# Altium schematic symbol library Driver_FET.SchLib: 216 symbols (part 2 of 3)
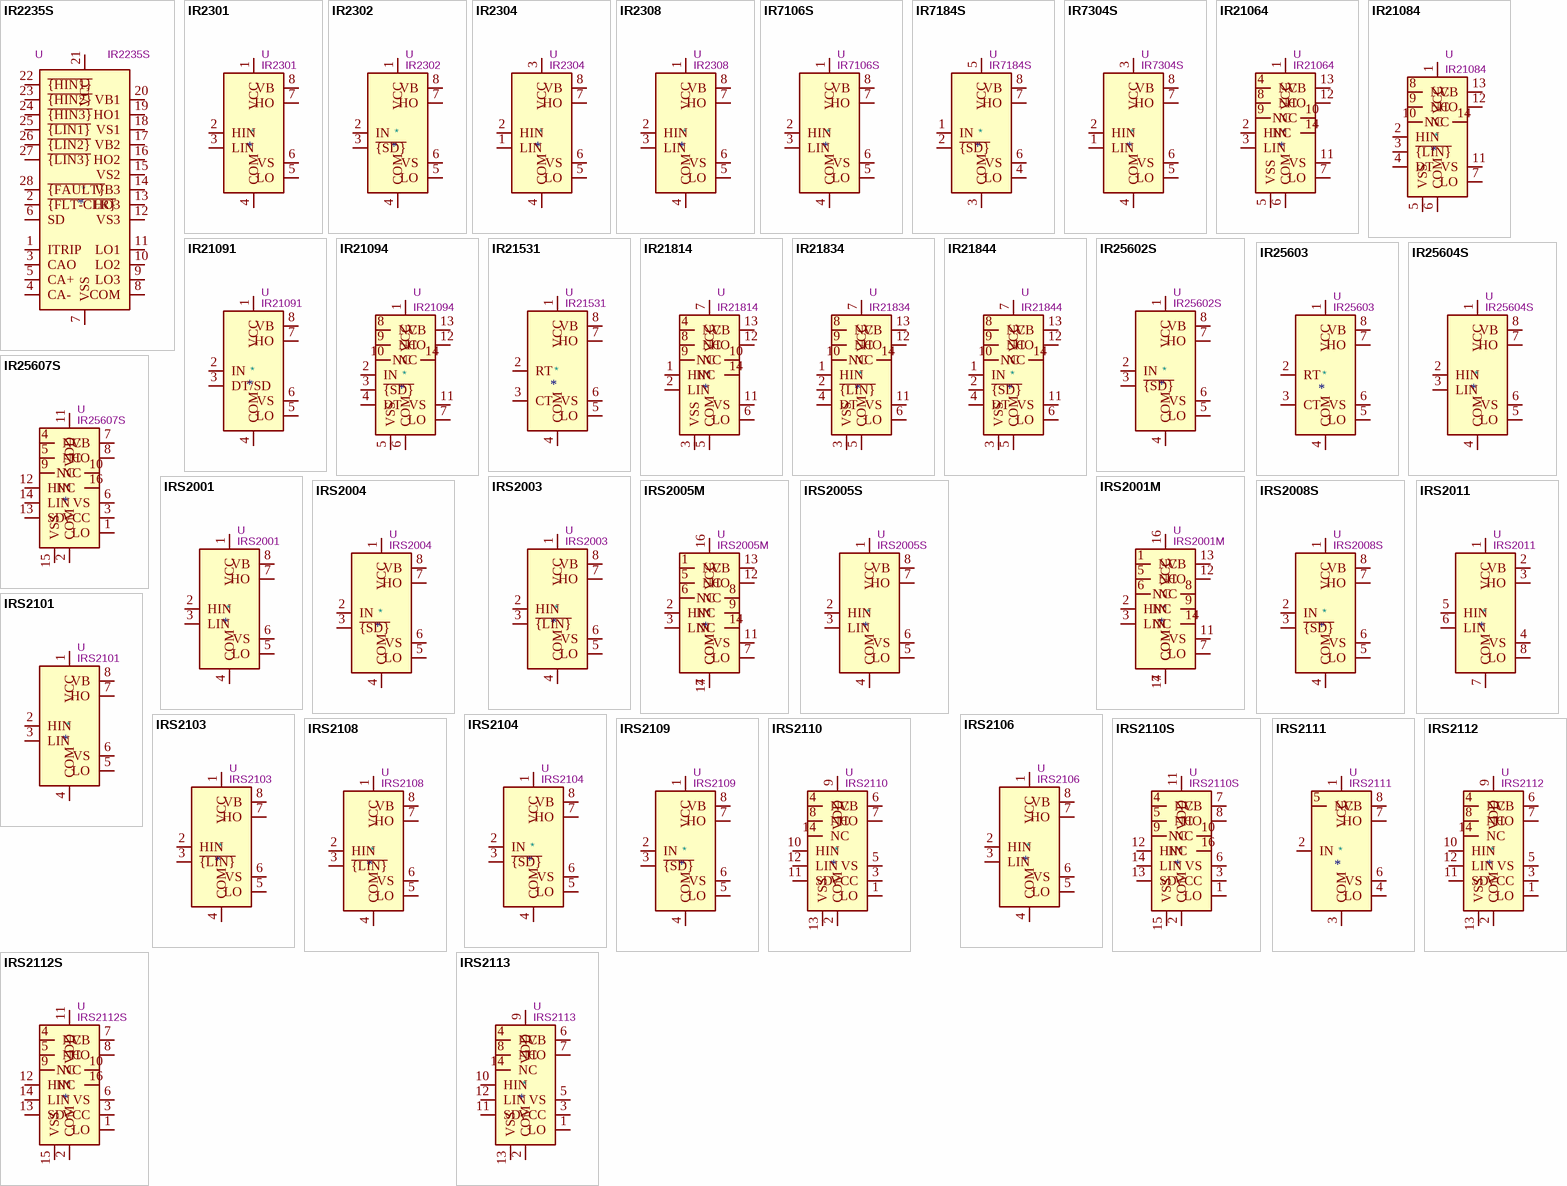
[diagram p6: symbols IR2235S to IRS2113]

## IR25607S
designator *  value IR25607S  Reference: U
High and Low Side Driver, 600V, 2.0/2.0A, SOIC-16W; ki_keywords: Gate Driver; ki_fp_filters: SOIC*7.5x10.3mm*P1.27mm*; Footprint: Package_SO:SOIC-16W_7.5x10.3mm_P1.27mm; Datasheet: https://www.infineon.com/dgdl/ir25607.pdf?fileId=5546d462533600a4015355ca0e7916f5; Description_: High and Low Side Driver, 600V, 2.0/2.0A, SOIC-16W
pins: 1 LO, 2 COM, 3 VCC, 4 NC, 5 NC, 6 VS, 7 VB, 8 HO, 9 NC, 10 NC, 11 VDD, 12 HIN, 13 SD, 14 LIN, 15 VSS, 16 NC

## IRS2001
designator *  value IRS2001  Reference: U
High and Low Side Driver, 200V, 200/420mA, PDIP-8/SOIC-8; ki_keywords: Gate Driver; ki_fp_filters: SOIC*3.9x4.9mm*P1.27mm* DIP*W7.62mm*; Datasheet: https://www.infineon.com/dgdl/irs2001pbf.pdf?fileId=5546d462533600a401535675a760277e; Description_: High and Low Side Driver, 200V, 200/420mA, PDIP-8/SOIC-8
pins: 1 VCC, 2 HIN, 3 LIN, 4 COM, 5 LO, 6 VS, 7 HO, 8 VB

## IRS2001M
designator *  value IRS2001M  Reference: U
High and Low Side Driver, 200V, 290/600mA, MLPQ-14; ki_keywords: Gate Driver; ki_fp_filters: Infineon*MLPQ*EP*4x4mm*P0.5mm*; Footprint: Package_DFN_QFN:Infineon_MLPQ-16-14-1EP_4x4mm_P0.5mm; Datasheet: https://www.infineon.com/dgdl/irs2001mpbf.pdf?fileId=5546d462533600a4015356759e20277c; Description_: High and Low Side Driver, 200V, 290/600mA, MLPQ-14
pins: 1 NC, 2 HIN, 3 LIN, 4 COM, 5 NC, 6 NC, 7 LO, 8 NC, 9 NC, 11 VS, 12 HO, 13 VB, 14 NC, 16 VCC, 17 COM

## IRS2003
designator *  value IRS2003  Reference: U
Half-Bridge Driver, 200V, 290/600mA, PDIP-8/SOIC-8; ki_keywords: Gate Driver; ki_fp_filters: SOIC*3.9x4.9mm*P1.27mm* DIP*W7.62mm*; Datasheet: https://www.infineon.com/dgdl/irs2003pbf.pdf?fileId=5546d462533600a401535675afec2780; Description_: Half-Bridge Driver, 200V, 290/600mA, PDIP-8/SOIC-8
pins: 1 VCC, 2 HIN, 3 ~{{LIN}}, 4 COM, 5 LO, 6 VS, 7 HO, 8 VB

## IRS2004
designator *  value IRS2004  Reference: U
Half-Bridge Driver, 200V, 290/600mA, PDIP-8/SOIC-8; ki_keywords: Gate Driver; ki_fp_filters: SOIC*3.9x4.9mm*P1.27mm* DIP*W7.62mm*; Datasheet: https://www.infineon.com/dgdl/irs2004pbf.pdf?fileId=5546d462533600a401535675b86b2782; Description_: Half-Bridge Driver, 200V, 290/600mA, PDIP-8/SOIC-8
pins: 1 VCC, 2 IN, 3 ~{{SD}}, 4 COM, 5 LO, 6 VS, 7 HO, 8 VB

## IRS2005M
designator *  value IRS2005M  Reference: U
High and Low Side Driver, 200V, 290/600mA, MLPQ-14; ki_keywords: Gate Driver; ki_fp_filters: Infineon*MLPQ*EP*4x4mm*P0.5mm*; Footprint: Package_DFN_QFN:Infineon_MLPQ-16-14-1EP_4x4mm_P0.5mm; Datasheet: https://www.infineon.com/dgdl/Infineon-IRS2005S-DS-v02_00-EN.pdf?fileId=5546d462533600a4015364c4246229e1; Description_: High and Low Side Driver, 200V, 290/600mA, MLPQ-14
pins: 1 NC, 2 HIN, 3 LIN, 4 COM, 5 NC, 6 NC, 7 LO, 8 NC, 9 NC, 11 VS, 12 HO, 13 VB, 14 NC, 16 VCC, 17 COM

## IRS2005S
designator *  value IRS2005S  Reference: U
High and Low Side Driver, 200V, 290/600mA, SOIC-8; ki_keywords: Gate Driver; ki_fp_filters: SOIC*3.9x4.9mm*P1.27mm*; Footprint: Package_SO:SOIC-8_3.9x4.9mm_P1.27mm; Datasheet: https://www.infineon.com/dgdl/Infineon-IRS2005S-DS-v02_00-EN.pdf?fileId=5546d462533600a4015364c4246229e1; Description_: High and Low Side Driver, 200V, 290/600mA, SOIC-8
pins: 1 VCC, 2 HIN, 3 LIN, 4 COM, 5 LO, 6 VS, 7 HO, 8 VB

## IRS2008S
designator *  value IRS2008S  Reference: U
200-V Half-Bridge Driver With Shutdown Input, 200V, 290/600mA, SOIC-8; ki_keywords: Gate Driver; ki_fp_filters: SOIC*3.9x4.9mm*P1.27mm*; Footprint: Package_SO:SOIC-8_3.9x4.9mm_P1.27mm; Datasheet: https://www.infineon.com/dgdl/Infineon-IRS2008S-DS-v01_00-EN.pdf?fileId=5546d46259d9a4bf015a3e76b6361c1a; Description_: 200-V Half-Bridge Driver With Shutdown Input, 200V, 290/600mA, SOIC-8
pins: 1 VCC, 2 IN, 3 ~{{SD}}, 4 COM, 5 LO, 6 VS, 7 HO, 8 VB

## IRS2011
designator *  value IRS2011  Reference: U
High and Low Side Driver, 200V, 1.0/1.0A, PDIP-8/SOIC-8; ki_keywords: Gate Driver; ki_fp_filters: SOIC*3.9x4.9mm*P1.27mm* DIP*W7.62mm*; Datasheet: https://www.infineon.com/dgdl/irs2011pbf.pdf?fileId=5546d462533600a401535675c19f2784; Description_: High and Low Side Driver, 200V, 1.0/1.0A, PDIP-8/SOIC-8
pins: 1 VCC, 2 VB, 3 HO, 4 VS, 5 HIN, 6 LIN, 7 COM, 8 LO

## IRS2101
designator *  value IRS2101  Reference: U
High and Low Side Driver, 600V, 290/600mA, PDIP-8/SOIC-8; ki_keywords: Gate Driver; ki_fp_filters: SOIC*3.9x4.9mm*P1.27mm* DIP*W7.62mm*; Datasheet: https://www.infineon.com/dgdl/ir2101.pdf?fileId=5546d462533600a4015355c7a755166c; Description_: High and Low Side Driver, 600V, 290/600mA, PDIP-8/SOIC-8
pins: 1 VCC, 2 HIN, 3 LIN, 4 COM, 5 LO, 6 VS, 7 HO, 8 VB

## IRS2103
designator *  value IRS2103  Reference: U
Half-Bridge Driver, 600V, 290/600mA, PDIP-8/SOIC-8; ki_keywords: Gate Driver; ki_fp_filters: SOIC*3.9x4.9mm*P1.27mm* DIP*W7.62mm*; Datasheet: https://www.infineon.com/dgdl/irs2103.pdf?fileId=5546d462533600a4015356762b71279f; Description_: Half-Bridge Driver, 600V, 290/600mA, PDIP-8/SOIC-8
pins: 1 VCC, 2 HIN, 3 ~{{LIN}}, 4 COM, 5 LO, 6 VS, 7 HO, 8 VB

## IRS2104
designator *  value IRS2104  Reference: U
Half-Bridge Driver, 600V, 290/600mA, PDIP-8/SOIC-8; ki_keywords: Gate Driver; ki_fp_filters: SOIC*3.9x4.9mm*P1.27mm* DIP*W7.62mm*; Datasheet: https://www.infineon.com/dgdl/irs2104.pdf?fileId=5546d462533600a40153567633f727a1; Description_: Half-Bridge Driver, 600V, 290/600mA, PDIP-8/SOIC-8
pins: 1 VCC, 2 IN, 3 ~{{SD}}, 4 COM, 5 LO, 6 VS, 7 HO, 8 VB

## IRS2106
designator *  value IRS2106  Reference: U
High and Low Side Driver, 600V, 290/600mA, PDIP-8/SOIC-8; ki_keywords: Gate Driver; ki_fp_filters: SOIC*3.9x4.9mm*P1.27mm* DIP*W7.62mm*; Datasheet: https://www.infineon.com/dgdl/irs2106.pdf?fileId=5546d462533600a4015356763aa527a3; Description_: High and Low Side Driver, 600V, 290/600mA, PDIP-8/SOIC-8
pins: 1 VCC, 2 HIN, 3 LIN, 4 COM, 5 LO, 6 VS, 7 HO, 8 VB

## IRS2108
designator *  value IRS2108  Reference: U
Half-Bridge Driver, 600V, 290/600mA, PDIP-8/SOIC-8; ki_keywords: Gate Driver; ki_fp_filters: SOIC*3.9x4.9mm*P1.27mm* DIP*W7.62mm*; Datasheet: https://www.infineon.com/dgdl/irs2108.pdf?fileId=5546d462533600a40153567649d627a8; Description_: Half-Bridge Driver, 600V, 290/600mA, PDIP-8/SOIC-8
pins: 1 VCC, 2 HIN, 3 ~{{LIN}}, 4 COM, 5 LO, 6 VS, 7 HO, 8 VB

## IRS2109
designator *  value IRS2109  Reference: U
Half-Bridge Driver, 600V, 290/600mA, PDIP-8/SOIC-8; ki_keywords: Gate Driver; ki_fp_filters: SOIC*3.9x4.9mm*P1.27mm* DIP*W7.62mm*; Datasheet: https://www.infineon.com/dgdl/irs2109.pdf?fileId=5546d462533600a401535676508f27ab; Description_: Half-Bridge Driver, 600V, 290/600mA, PDIP-8/SOIC-8
pins: 1 VCC, 2 IN, 3 ~{{SD}}, 4 COM, 5 LO, 6 VS, 7 HO, 8 VB

## IRS2110
designator *  value IRS2110  Reference: U
High and Low Side Driver, 500V, 2.0/2.0A, PDIP-14; ki_keywords: Gate Driver; ki_fp_filters: DIP*W7.62mm*; Footprint: Package_DIP:DIP-14_W7.62mm; Datasheet: https://www.infineon.com/dgdl/irs2110.pdf?fileId=5546d462533600a40153567660ff27b0; Description_: High and Low Side Driver, 500V, 2.0/2.0A, PDIP-14
pins: 1 LO, 2 COM, 3 VCC, 4 NC, 5 VS, 6 VB, 7 HO, 8 NC, 9 VDD, 10 HIN, 11 SD, 12 LIN, 13 VSS, 14 NC

## IRS2110S
designator *  value IRS2110S  Reference: U
High and Low Side Driver, 500V, 2.0/2.0A, SOIC-16W; ki_keywords: Gate Driver; ki_fp_filters: SOIC*7.5x10.3mm*P1.27mm*; Footprint: Package_SO:SOIC-16W_7.5x10.3mm_P1.27mm; Datasheet: https://www.infineon.com/dgdl/irs2110.pdf?fileId=5546d462533600a40153567660ff27b0; Description_: High and Low Side Driver, 500V, 2.0/2.0A, SOIC-16W
pins: 1 LO, 2 COM, 3 VCC, 4 NC, 5 NC, 6 VS, 7 VB, 8 HO, 9 NC, 10 NC, 11 VDD, 12 HIN, 13 SD, 14 LIN, 15 VSS, 16 NC

## IRS2111
designator *  value IRS2111  Reference: U
Half-Bridge Driver, 600V, 290/600mA, PDIP-8/SOIC-8; ki_keywords: Gate Driver; ki_fp_filters: SOIC*3.9x4.9mm*P1.27mm* DIP*W7.62mm*; Datasheet: https://www.infineon.com/dgdl/irs2111pbf.pdf?fileId=5546d462533600a401535676679b27b3; Description_: Half-Bridge Driver, 600V, 290/600mA, PDIP-8/SOIC-8
pins: 1 VCC, 2 IN, 3 COM, 4 LO, 5 NC, 6 VS, 7 HO, 8 VB

## IRS2112
designator *  value IRS2112  Reference: U
High and Low Side Driver, 600V, 290/600mA, PDIP-14; ki_keywords: Gate Driver; ki_fp_filters: DIP*W7.62mm*; Footprint: Package_DIP:DIP-14_W7.62mm; Datasheet: https://www.infineon.com/dgdl/irs2112pbf.pdf?fileId=5546d462533600a401535676702827b5; Description_: High and Low Side Driver, 600V, 290/600mA, PDIP-14
pins: 1 LO, 2 COM, 3 VCC, 4 NC, 5 VS, 6 VB, 7 HO, 8 NC, 9 VDD, 10 HIN, 11 SD, 12 LIN, 13 VSS, 14 NC

## IRS2112S
designator *  value IRS2112S  Reference: U
High and Low Side Driver, 500V, 290/600mA, SOIC-16W; ki_keywords: Gate Driver; ki_fp_filters: SOIC*7.5x10.3mm*P1.27mm*; Footprint: Package_SO:SOIC-16W_7.5x10.3mm_P1.27mm; Datasheet: https://www.infineon.com/dgdl/irs2112pbf.pdf?fileId=5546d462533600a401535676702827b5; Description_: High and Low Side Driver, 500V, 290/600mA, SOIC-16W
pins: 1 LO, 2 COM, 3 VCC, 4 NC, 5 NC, 6 VS, 7 VB, 8 HO, 9 NC, 10 NC, 11 VDD, 12 HIN, 13 SD, 14 LIN, 15 VSS, 16 NC

## IRS2113
designator *  value IRS2113  Reference: U
High and Low Side Driver, 600V, 2.0/2.0A, PDIP-14; ki_keywords: Gate Driver; ki_fp_filters: DIP*W7.62mm*; Footprint: Package_DIP:DIP-14_W7.62mm; Datasheet: https://www.infineon.com/dgdl/irs2110.pdf?fileId=5546d462533600a40153567660ff27b0; Description_: High and Low Side Driver, 600V, 2.0/2.0A, PDIP-14
pins: 1 LO, 2 COM, 3 VCC, 4 NC, 5 VS, 6 VB, 7 HO, 8 NC, 9 VDD, 10 HIN, 11 SD, 12 LIN, 13 VSS, 14 NC

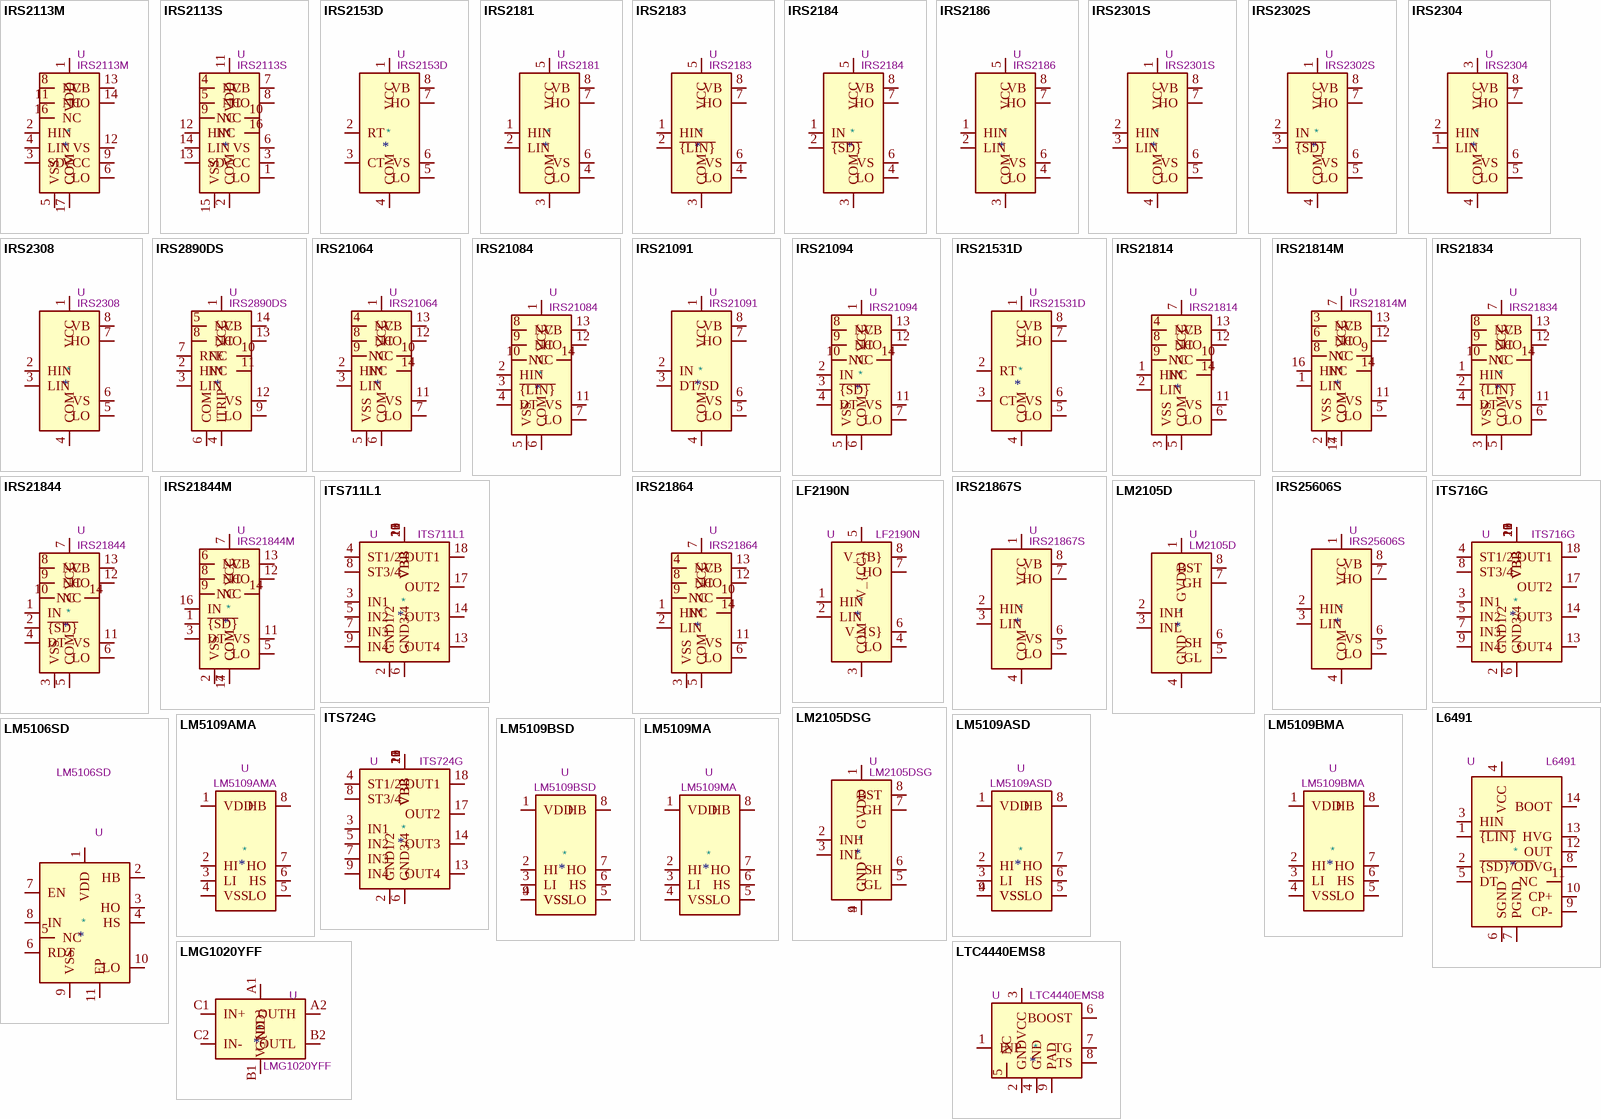
[diagram p3: symbols IRS2113M to LTC4440EMS8]

## IRS2113M
designator *  value IRS2113M  Reference: U
High- and Low-Side Driver, 600V, 2.5/2.5A, MLPQ-14; ki_keywords: Gate Driver; ki_fp_filters: Infineon*MLPQ*EP*4x4mm*P0.5mm*; Footprint: Package_DFN_QFN:Infineon_MLPQ-16-14-1EP_4x4mm_P0.5mm; Datasheet: https://www.infineon.com/dgdl/irs2113mpbf.pdf?fileId=5546d462533600a40153567676a227b7; Description_: High- and Low-Side Driver, 600V, 2.5/2.5A, MLPQ-14
pins: 1 VDD, 2 HIN, 3 SD, 4 LIN, 5 VSS, 6 LO, 7 COM, 8 NC, 9 VCC, 11 NC, 12 VS, 13 VB, 14 HO, 16 NC, 17 COM

## IRS2113S
designator *  value IRS2113S  Reference: U
High and Low Side Driver, 500V, 2.0/2.0A, SOIC-16W; ki_keywords: Gate Driver; ki_fp_filters: SOIC*7.5x10.3mm*P1.27mm*; Footprint: Package_SO:SOIC-16W_7.5x10.3mm_P1.27mm; Datasheet: https://www.infineon.com/dgdl/irs2110.pdf?fileId=5546d462533600a40153567660ff27b0; Description_: High and Low Side Driver, 500V, 2.0/2.0A, SOIC-16W
pins: 1 LO, 2 COM, 3 VCC, 4 NC, 5 NC, 6 VS, 7 VB, 8 HO, 9 NC, 10 NC, 11 VDD, 12 HIN, 13 SD, 14 LIN, 15 VSS, 16 NC

## IRS2153D
designator *  value IRS2153D  Reference: U
Self-Oscillating Half-Bridge Driver IC, 600V, 180/260mA, PDIP-8/SOIC-8; ki_keywords: Oscillating Gate Driver; ki_fp_filters: SOIC*3.9x4.9mm*P1.27mm* DIP*W7.62mm*; Datasheet: https://www.infineon.com/dgdl/irs2153d.pdf?fileId=5546d462533600a401535676951e27c3; Description_: Self-Oscillating Half-Bridge Driver IC, 600V, 180/260mA, PDIP-8/SOIC-8
pins: 1 VCC, 2 RT, 3 CT, 4 COM, 5 LO, 6 VS, 7 HO, 8 VB

## IRS2181
designator *  value IRS2181  Reference: U
High and Low Side Driver, 600V, 1.4/1.8A, PDIP-8/SOIC-8; ki_keywords: Gate Driver; ki_fp_filters: SOIC*3.9x4.9mm*P1.27mm* DIP*W7.62mm*; Datasheet: https://www.infineon.com/dgdl/irs2181.pdf?fileId=5546d462533600a401535676c12b27d3; Description_: High and Low Side Driver, 600V, 1.4/1.8A, PDIP-8/SOIC-8
pins: 1 HIN, 2 LIN, 3 COM, 4 LO, 5 VCC, 6 VS, 7 HO, 8 VB

## IRS2183
designator *  value IRS2183  Reference: U
Half-Bridge Driver, 600V, 1.4/1.8A, PDIP-8/SOIC-8; ki_keywords: Gate Driver; ki_fp_filters: SOIC*3.9x4.9mm*P1.27mm* DIP*W7.62mm*; Datasheet: https://www.infineon.com/dgdl/irs2183.pdf?fileId=5546d462533600a401535676d20c27d8; Description_: Half-Bridge Driver, 600V, 1.4/1.8A, PDIP-8/SOIC-8
pins: 1 HIN, 2 ~{{LIN}}, 3 COM, 4 LO, 5 VCC, 6 VS, 7 HO, 8 VB

## IRS2184
designator *  value IRS2184  Reference: U
Half-Bridge Driver, 600V, 1.4/1.8A, PDIP-8/SOIC-8; ki_keywords: Gate Driver; ki_fp_filters: SOIC*3.9x4.9mm*P1.27mm* DIP*W7.62mm*; Datasheet: https://www.infineon.com/dgdl/irs2184.pdf?fileId=5546d462533600a401535676d8da27db; Description_: Half-Bridge Driver, 600V, 1.4/1.8A, PDIP-8/SOIC-8
pins: 1 IN, 2 ~{{SD}}, 3 COM, 4 LO, 5 VCC, 6 VS, 7 HO, 8 VB

## IRS2186
designator *  value IRS2186  Reference: U
High and Low Side Driver, 600V, 4A, PDIP-8/SOIC-8; ki_keywords: gate driver; ki_fp_filters: SOIC*3.9x4.9mm*P1.27mm* DIP*W7.62mm*; Datasheet: https://www.infineon.com/dgdl/irs2186pbf.pdf?fileId=5546d462533600a40153567716c427ed; Description_: High and Low Side Driver, 600V, 4A, PDIP-8/SOIC-8
pins: 1 HIN, 2 LIN, 3 COM, 4 LO, 5 VCC, 6 VS, 7 HO, 8 VB

## IRS2301S
designator *  value IRS2301S  Reference: U
High and Low Side Driver, 600V, 200/350mA, SOIC-8; ki_keywords: Gate Driver; ki_fp_filters: SOIC*3.9x4.9mm*P1.27mm*; Footprint: Package_SO:SOIC-8_3.9x4.9mm_P1.27mm; Datasheet: https://www.infineon.com/dgdl/irs2301pbf.pdf?fileId=5546d462533600a40153567a7ec527fe; Description_: High and Low Side Driver, 600V, 200/350mA, SOIC-8
pins: 1 VCC, 2 HIN, 3 LIN, 4 COM, 5 LO, 6 VS, 7 HO, 8 VB

## IRS2302S
designator *  value IRS2302S  Reference: U
Half-Bridge Driver, 600V, 200/350mA, SOIC-8; ki_keywords: Gate Driver; ki_fp_filters: SOIC*3.9x4.9mm*P1.27mm*; Footprint: Package_SO:SOIC-8_3.9x4.9mm_P1.27mm; Datasheet: https://www.infineon.com/dgdl/Infineon-IRS2302-DS-v02_01-EN.pdf?fileId=5546d462533600a40153567a87382800; Description_: Half-Bridge Driver, 600V, 200/350mA, SOIC-8
pins: 1 VCC, 2 IN, 3 ~{{SD}}, 4 COM, 5 LO, 6 VS, 7 HO, 8 VB

## IRS2304
designator *  value IRS2304  Reference: U
Half-Bridge Driver, 600V, 290/600mA, PDIP-8/SOIC-8; ki_keywords: Gate Driver; ki_fp_filters: SOIC*3.9x4.9mm*P1.27mm* DIP*W7.62mm*; Datasheet: https://www.infineon.com/dgdl/irs2304spbf.pdf?fileId=5546d462533600a40153567a8fe72802; Description_: Half-Bridge Driver, 600V, 290/600mA, PDIP-8/SOIC-8
pins: 1 LIN, 2 HIN, 3 VCC, 4 COM, 5 LO, 6 VS, 7 HO, 8 VB

## IRS2308
designator *  value IRS2308  Reference: U
Half-Bridge Driver, 600V, 290/600mA, PDIP-8/SOIC-8; ki_keywords: Gate Driver; ki_fp_filters: SOIC*3.9x4.9mm*P1.27mm* DIP*W7.62mm*; Datasheet: https://www.infineon.com/dgdl/irs2308.pdf?fileId=5546d462533600a40153567a98ac2804; Description_: Half-Bridge Driver, 600V, 290/600mA, PDIP-8/SOIC-8
pins: 1 VCC, 2 HIN, 3 LIN, 4 COM, 5 LO, 6 VS, 7 HO, 8 VB

## IRS2890DS
designator *  value IRS2890DS  Reference: U
Half-Bridge Driver with Overcurrent Protection, 600V, 220/480mA, SOIC-14; ki_keywords: Gate Driver; ki_fp_filters: SOIC*3.9x8.7mm*P1.27mm*; Footprint: Package_SO:SOIC-14_3.9x8.7mm_P1.27mm; Datasheet: https://www.infineon.com/dgdl/Infineon-IRS2890DS-DS-v01_00-EN.pdf?fileId=5546d4625a888733015aad6fbc8a4bf4; Description_: Half-Bridge Driver with Overcurrent Protection, 600V, 220/480mA, SOIC-14
pins: 1 VCC, 2 HIN, 3 LIN, 4 ITRIP, 5 NC, 6 COM, 7 RFE, 8 NC, 9 LO, 10 NC, 11 NC, 12 VS, 13 HO, 14 VB

## IRS21064
designator *  value IRS21064  Reference: U
High and Low Side Driver, 600V, 290/600mA, PDIP-14/SOIC-14; ki_keywords: Gate Driver; ki_fp_filters: SOIC*3.9x8.7mm*P1.27mm* DIP*W7.62mm*; Datasheet: https://www.infineon.com/dgdl/irs2106.pdf?fileId=5546d462533600a4015356763aa527a3; Description_: High and Low Side Driver, 600V, 290/600mA, PDIP-14/SOIC-14
pins: 1 VCC, 2 HIN, 3 LIN, 4 NC, 5 VSS, 6 COM, 7 LO, 8 NC, 9 NC, 10 NC, 11 VS, 12 HO, 13 VB, 14 NC

## IRS21084
designator *  value IRS21084  Reference: U
Half-Bridge Driver, 600V, 290/600mA, PDIP-14/SOIC-14; ki_keywords: Gate Driver; ki_fp_filters: SOIC*3.9x8.7mm*P1.27mm* DIP*W7.62mm*; Datasheet: https://www.infineon.com/dgdl/irs2108.pdf?fileId=5546d462533600a40153567649d627a8; Description_: Half-Bridge Driver, 600V, 290/600mA, PDIP-14/SOIC-14
pins: 1 VCC, 2 HIN, 3 ~{{LIN}}, 4 DT, 5 VSS, 6 COM, 7 LO, 8 NC, 9 NC, 10 NC, 11 VS, 12 HO, 13 VB, 14 NC

## IRS21091
designator *  value IRS21091  Reference: U
Half-Bridge Driver, 600V, 290/600mA, PDIP-8/SOIC-8; ki_keywords: Gate Driver; ki_fp_filters: SOIC*3.9x4.9mm*P1.27mm* DIP*W7.62mm*; Datasheet: https://www.infineon.com/dgdl/irs21091.pdf?fileId=5546d462533600a401535676573d27ae; Description_: Half-Bridge Driver, 600V, 290/600mA, PDIP-8/SOIC-8
pins: 1 VCC, 2 IN, 3 DT/SD, 4 COM, 5 LO, 6 VS, 7 HO, 8 VB

## IRS21094
designator *  value IRS21094  Reference: U
Half-Bridge Driver, 600V, 290/600mA, PDIP-8/SOIC-8; ki_keywords: Gate Driver; ki_fp_filters: SOIC*3.9x8.7mm*P1.27mm* DIP*W7.62mm*; Datasheet: https://www.infineon.com/dgdl/irs2109.pdf?fileId=5546d462533600a401535676508f27ab; Description_: Half-Bridge Driver, 600V, 290/600mA, PDIP-8/SOIC-8
pins: 1 VCC, 2 IN, 3 ~{{SD}}, 4 DT, 5 VSS, 6 COM, 7 LO, 8 NC, 9 NC, 10 NC, 11 VS, 12 HO, 13 VB, 14 NC

## IRS21531D
designator *  value IRS21531D  Reference: U
Self-Oscillating Half-Bridge Driver IC, 600V, 180/260mA, PDIP-8/SOIC-8; ki_keywords: Oscillating Gate Driver; ki_fp_filters: SOIC*3.9x4.9mm*P1.27mm* DIP*W7.62mm*; Datasheet: https://www.infineon.com/dgdl/irs2153d.pdf?fileId=5546d462533600a401535676951e27c3; Description_: Self-Oscillating Half-Bridge Driver IC, 600V, 180/260mA, PDIP-8/SOIC-8
pins: 1 VCC, 2 RT, 3 CT, 4 COM, 5 LO, 6 VS, 7 HO, 8 VB

## IRS21814
designator *  value IRS21814  Reference: U
High and Low Side Driver, 600V, 1.4/1.8A, PDIP-14/SOIC-14; ki_keywords: Gate Driver; ki_fp_filters: SOIC*3.9x8.7mm*P1.27mm* DIP*W7.62mm*; Datasheet: https://www.infineon.com/dgdl/irs2181.pdf?fileId=5546d462533600a401535676c12b27d3; Description_: High and Low Side Driver, 600V, 1.4/1.8A, PDIP-14/SOIC-14
pins: 1 HIN, 2 LIN, 3 VSS, 4 NC, 5 COM, 6 LO, 7 VCC, 8 NC, 9 NC, 10 NC, 11 VS, 12 HO, 13 VB, 14 NC

## IRS21814M
designator *  value IRS21814M  Reference: U
High- and Low-Side Driver, 600V, 1.9/2.3A, MLPQ-14; ki_keywords: Gate Driver; ki_fp_filters: Infineon*MLPQ*EP*4x4mm*P0.5mm*; Footprint: Package_DFN_QFN:Infineon_MLPQ-16-14-1EP_4x4mm_P0.5mm; Datasheet: https://www.infineon.com/dgdl/irs21814mpbf.pdf?fileId=5546d462533600a401535676c8a827d6; Description_: High- and Low-Side Driver, 600V, 1.9/2.3A, MLPQ-14
pins: 1 LIN, 2 VSS, 3 NC, 4 COM, 5 LO, 6 NC, 7 VCC, 8 NC, 9 NC, 11 VS, 12 HO, 13 VB, 14 NC, 16 HIN, 17 COM

## IRS21834
designator *  value IRS21834  Reference: U
Half-Bridge Driver, 600V, 1.4/1.8A, PDIP-14/SOIC-14; ki_keywords: Gate Driver; ki_fp_filters: SOIC*3.9x8.7mm*P1.27mm* DIP*W7.62mm*; Datasheet: https://www.infineon.com/dgdl/irs2183.pdf?fileId=5546d462533600a401535676d20c27d8; Description_: Half-Bridge Driver, 600V, 1.4/1.8A, PDIP-14/SOIC-14
pins: 1 HIN, 2 ~{{LIN}}, 3 VSS, 4 DT, 5 COM, 6 LO, 7 VCC, 8 NC, 9 NC, 10 NC, 11 VS, 12 HO, 13 VB, 14 NC

## IRS21844
designator *  value IRS21844  Reference: U
Half-Bridge Driver, 600V, 1.4/1.8A, PDIP-14/SOIC-14; ki_keywords: Gate Driver; ki_fp_filters: SOIC*3.9x8.7mm*P1.27mm* DIP*W7.62mm*; Datasheet: https://www.infineon.com/dgdl/irs2184.pdf?fileId=5546d462533600a401535676d8da27db; Description_: Half-Bridge Driver, 600V, 1.4/1.8A, PDIP-14/SOIC-14
pins: 1 IN, 2 ~{{SD}}, 3 VSS, 4 DT, 5 COM, 6 LO, 7 VCC, 8 NC, 9 NC, 10 NC, 11 VS, 12 HO, 13 VB, 14 NC

## IRS21844M
designator *  value IRS21844M  Reference: U
Half-Bridge Driver, 600V, 1.9/2.3A, MLPQ-14; ki_keywords: Gate Driver; ki_fp_filters: Infineon*MLPQ*EP*4x4mm*P0.5mm*; Footprint: Package_DFN_QFN:Infineon_MLPQ-16-14-1EP_4x4mm_P0.5mm; Datasheet: https://www.infineon.com/dgdl/irs21844mpbf.pdf?fileId=5546d462533600a401535676dfb027de; Description_: Half-Bridge Driver, 600V, 1.9/2.3A, MLPQ-14
pins: 1 ~{{SD}}, 2 VSS, 3 DT, 4 COM, 5 LO, 6 NC, 7 VCC, 8 NC, 9 NC, 11 VS, 12 HO, 13 VB, 14 NC, 16 IN, 17 COM

## IRS21864
designator *  value IRS21864  Reference: U
High and Low Side Driver, 600V, 4A, PDIP-14/SOIC-14; ki_keywords: gate driver; ki_fp_filters: SOIC*3.9x8.7mm*P1.27mm* DIP*W7.62mm*; Datasheet: https://www.infineon.com/dgdl/irs2186pbf.pdf?fileId=5546d462533600a40153567716c427ed; Description_: High and Low Side Driver, 600V, 4A, PDIP-14/SOIC-14
pins: 1 HIN, 2 LIN, 3 VSS, 4 NC, 5 COM, 6 LO, 7 VCC, 8 NC, 9 NC, 10 NC, 11 VS, 12 HO, 13 VB, 14 NC

## IRS21867S
designator *  value IRS21867S  Reference: U
High and Low Side Driver, 600V, 4.0/4.0A, SOIC-8; ki_keywords: Gate Driver; ki_fp_filters: SOIC*3.9x4.9mm*P1.27mm*; Footprint: Package_SO:SOIC-8_3.9x4.9mm_P1.27mm; Datasheet: http://www.infineon.com/dgdl/irs21867spbf.pdf?fileId=5546d462533600a4015356770e8327eb; Description_: High and Low Side Driver, 600V, 4.0/4.0A, SOIC-8
pins: 1 VCC, 2 HIN, 3 LIN, 4 COM, 5 LO, 6 VS, 7 HO, 8 VB

## IRS25606S
designator *  value IRS25606S  Reference: U
Half-Bridge Driver, 600V, 200/350mA, SOIC-8; ki_keywords: Gate Driver; ki_fp_filters: SOIC*3.9x4.9mm*P1.27mm*; Footprint: Package_SO:SOIC-8_3.9x4.9mm_P1.27mm; Datasheet: https://www.infineon.com/dgdl/ir25606.pdf?fileId=5546d462533600a4015355ca002316f3; Description_: Half-Bridge Driver, 600V, 200/350mA, SOIC-8
pins: 1 VCC, 2 HIN, 3 LIN, 4 COM, 5 LO, 6 VS, 7 HO, 8 VB

## ITS711L1
designator *  value ITS711L1  Reference: U
Smart High-Side Power Switch for Industrial Applications, Four Channels, Rds 200mΩ, SOIC-20W; ki_keywords: driver fet quad; ki_fp_filters: SOIC*7.5x12.8mm*P1.27mm*; Footprint: Package_SO:SOIC-20W_7.5x12.8mm_P1.27mm; Datasheet: https://www.infineon.com/dgdl/Infineon-ITS711L1-DS-v01_03-en.pdf?fileId=db3a30432239cccd0122e560bae03c62; Description_: Smart High-Side Power Switch for Industrial Applications, Four Channels, Rds 200mΩ, SOIC-20W
pins: 1 VBB, 2 GND1/2, 3 IN1, 4 ST1/2, 5 IN2, 6 GND3/4, 7 IN3, 8 ST3/4, 9 IN4, 10 VBB, 11 VBB, 12 VBB, 13 OUT4, 14 OUT3, 15 VBB, 16 VBB, 17 OUT2, 18 OUT1, 19 VBB, 20 VBB

## ITS716G
designator *  value ITS716G  Reference: U
Smart High-Side Power Switch for Industrial Applications, Four Channels, Rds 140mΩ, SOIC-20W; ki_keywords: driver fet quad; ki_fp_filters: SOIC*7.5x12.8mm*P1.27mm*; Footprint: Package_SO:SOIC-20W_7.5x12.8mm_P1.27mm; Datasheet: https://www.infineon.com/dgdl/Infineon-ITS716G-DS-v01_01-en.pdf?fileId=db3a304412b407950112b428c2cf3e6d; Description_: Smart High-Side Power Switch for Industrial Applications, Four Channels, Rds 140mΩ, SOIC-20W
pins: 1 VBB, 2 GND1/2, 3 IN1, 4 ST1/2, 5 IN2, 6 GND3/4, 7 IN3, 8 ST3/4, 9 IN4, 10 VBB, 11 VBB, 12 VBB, 13 OUT4, 14 OUT3, 15 VBB, 16 VBB, 17 OUT2, 18 OUT1, 19 VBB, 20 VBB

## ITS724G
designator *  value ITS724G  Reference: U
Smart High-Side Power Switch for Industrial Applications, Four Channels, Rds 90mΩ, SOIC-20W; ki_keywords: driver fet quad; ki_fp_filters: SOIC*7.5x12.8mm*P1.27mm*; Footprint: Package_SO:SOIC-20W_7.5x12.8mm_P1.27mm; Datasheet: https://www.infineon.com/dgdl/Infineon-ITS724G-DS-v01_01-en.pdf?fileId=db3a304412b407950112b428d6083e90; Description_: Smart High-Side Power Switch for Industrial Applications, Four Channels, Rds 90mΩ, SOIC-20W
pins: 1 VBB, 2 GND1/2, 3 IN1, 4 ST1/2, 5 IN2, 6 GND3/4, 7 IN3, 8 ST3/4, 9 IN4, 10 VBB, 11 VBB, 12 VBB, 13 OUT4, 14 OUT3, 15 VBB, 16 VBB, 17 OUT2, 18 OUT1, 19 VBB, 20 VBB

## L6491
designator *  value L6491  Reference: U
High voltage high and low-side 4 A gate driver, SO-14; ki_keywords: fet driver; ki_fp_filters: SO*3.9x8.65mm*P1.27mm*; Footprint: Package_SO:SO-14_3.9x8.65mm_P1.27mm; Datasheet: https://www.st.com/resource/en/datasheet/l6491.pdf; Description_: High voltage high and low-side 4 A gate driver, SO-14
pins: 1 ~{{LIN}}, 2 ~{{SD}/OD}, 3 HIN, 4 VCC, 5 DT, 6 SGND, 7 PGND, 8 LVG, 9 CP-, 10 CP+, 11 NC, 12 OUT, 13 HVG, 14 BOOT

## LF2190N
designator *  value LF2190N  Reference: U
High and Low Side Driver, 600V, 4.5/4.5A, SO-8; ki_keywords: ixys littelfuse boosted bootstrapped dual; ki_fp_filters: SOIC*3.9x4.9mm*P1.27mm*; Footprint: Package_SO:SOIC-8_3.9x4.9mm_P1.27mm; Datasheet: https://www.littelfuse.com/media?resourcetype=datasheets&itemid=4c945cfe-ef54-4349-b2fb-9c1330d8240c&filename=littelfuse-gate-drivers-lf2190ntr-datasheet; Description_: High and Low Side Driver, 600V, 4.5/4.5A, SO-8
pins: 1 HIN, 2 LIN, 3 COM, 4 LO, 5 V_{CC}, 6 V_{S}, 7 HO, 8 V_{B}

## LM2105D
designator *  value LM2105D  Reference: U
107-V, 0.5-A, 0.8-A Half-Bridge Driver with 5-V UVLO and Integrated Bootstrap Diode, SOIC-8; ki_keywords: gate driver bootstrap half bridge; ki_fp_filters: SOIC*3.9x4.9mm*P1.27*; Footprint: Package_SO:SOIC-8_3.9x4.9mm_P1.27mm; Datasheet: https://www.ti.com/lit/ds/symlink/lm2105.pdf; Description_: 107-V, 0.5-A, 0.8-A Half-Bridge Driver with 5-V UVLO and Integrated Bootstrap Diode, SOIC-8
pins: 1 GVDD, 2 INH, 3 INL, 4 GND, 5 GL, 6 SH, 7 GH, 8 BST

## LM2105DSG
designator *  value LM2105DSG  Reference: U
107-V, 0.5-A, 0.8-A Half-Bridge Driver with 5-V UVLO and Integrated Bootstrap Diode, WSON-8-1EP; ki_keywords: gate driver bootstrap half bridge; ki_fp_filters: WSON*1EP*2x2mm*P0.5mm*EP0.9x1.6*; Footprint: Package_SON:WSON-8-1EP_2x2mm_P0.5mm_EP0.9x1.6mm; Datasheet: https://www.ti.com/lit/ds/symlink/lm2105.pdf; Description_: 107-V, 0.5-A, 0.8-A Half-Bridge Driver with 5-V UVLO and Integrated Bootstrap Diode, WSON-8-1EP
pins: 1 GVDD, 2 INH, 3 INL, 4 GND, 5 GL, 6 SH, 7 GH, 8 BST, 9 GND

## LM5106SD
designator *  value LM5106SD  Reference: U
Half-Bridge Gate Driver, Output Current 1.8A, 100V, WSON-10; ki_keywords: High-Voltage Texas; ki_fp_filters: WSON*1EP*4x4mm*P0.8mm*; Footprint: Package_SON:WSON-10-1EP_4x4mm_P0.8mm_EP2.6x3mm_ThermalVias; Datasheet: https://www.ti.com/lit/ds/symlink/lm5106.pdf; Description_: Half-Bridge Gate Driver, Output Current 1.8A, 100V, WSON-10
pins: 1 VDD, 2 HB, 3 HO, 4 HS, 5 NC, 6 RDT, 7 EN, 8 IN, 9 VSS, 10 LO, 11 EP

## LM5109AMA
designator *  value LM5109AMA  Reference: U
Half-Bridge Gate Driver, Output Current 1.0A, 100V, SOIC-8; ki_fp_filters: SOIC*3.9x4.9mm*P1.27mm*; Footprint: Package_SO:SOIC-8_3.9x4.9mm_P1.27mm; Datasheet: http://www.ti.com/lit/ds/symlink/lm5109a.pdf; Description_: Half-Bridge Gate Driver, Output Current 1.0A, 100V, SOIC-8; ki_keywords: Half-Bridge Gate Driver
pins: 1 VDD, 2 HI, 3 LI, 4 VSS, 5 LO, 6 HS, 7 HO, 8 HB

## LM5109ASD
designator *  value LM5109ASD  Reference: U
Half-Bridge Gate Driver, Output Current 1.0A, 100V, WSON-8; ki_fp_filters: WSON*1EP*4x4mm*P0.8mm*; Footprint: Package_SON:WSON-8-1EP_4x4mm_P0.8mm_EP2.6x3mm; Datasheet: http://www.ti.com/lit/ds/symlink/lm5109a.pdf; Description_: Half-Bridge Gate Driver, Output Current 1.0A, 100V, WSON-8; ki_keywords: Half-Bridge Gate Driver
pins: 1 VDD, 2 HI, 3 LI, 4 VSS, 5 LO, 6 HS, 7 HO, 8 HB, 9 VSS

## LM5109BMA
designator *  value LM5109BMA  Reference: U
Half-Bridge Gate Driver, Output Current 1.0A, 100V, SOIC-8; ki_fp_filters: SOIC*3.9x4.9mm*P1.27mm*; Footprint: Package_SO:SOIC-8_3.9x4.9mm_P1.27mm; Datasheet: http://www.ti.com/lit/ds/symlink/lm5109b.pdf; Description_: Half-Bridge Gate Driver, Output Current 1.0A, 100V, SOIC-8; ki_keywords: Half-Bridge Gate Driver
pins: 1 VDD, 2 HI, 3 LI, 4 VSS, 5 LO, 6 HS, 7 HO, 8 HB

## LM5109BSD
designator *  value LM5109BSD  Reference: U
Half-Bridge Gate Driver, Output Current 1.0A, 100V, WSON-8; ki_fp_filters: WSON*1EP*4x4mm*P0.8mm*; Footprint: Package_SON:WSON-8-1EP_4x4mm_P0.8mm_EP2.6x3mm; Datasheet: http://www.ti.com/lit/ds/symlink/lm5109b.pdf; Description_: Half-Bridge Gate Driver, Output Current 1.0A, 100V, WSON-8; ki_keywords: Half-Bridge Gate Driver
pins: 1 VDD, 2 HI, 3 LI, 4 VSS, 5 LO, 6 HS, 7 HO, 8 HB, 9 VSS

## LM5109MA
designator *  value LM5109MA  Reference: U
Half-Bridge Gate Driver, Output Current 1.0A, 100V, SOIC-8; ki_fp_filters: SOIC*3.9x4.9mm*P1.27mm*; Footprint: Package_SO:SOIC-8_3.9x4.9mm_P1.27mm; Datasheet: http://www.ti.com/lit/ds/symlink/lm5109.pdf; Description_: Half-Bridge Gate Driver, Output Current 1.0A, 100V, SOIC-8; ki_keywords: Half-Bridge Gate Driver
pins: 1 VDD, 2 HI, 3 LI, 4 VSS, 5 LO, 6 HS, 7 HO, 8 HB

## LMG1020YFF
designator *  value LMG1020YFF  Reference: U
5-V, 7-A, 5-A Low-Side GaN and MOSFET Driver For 1-ns Pulse Width, DSBGA-6; ki_keywords: gan hemt gate driver low side fast rise time; ki_fp_filters: Texas?DSBGA?6?0.855x1.255mm?Layout2x3?P0.4mm*; Footprint: Package_BGA:Texas_DSBGA-6_0.855x1.255mm_Layout2x3_P0.4mm_LevelB; Datasheet: https://www.ti.com/lit/ds/symlink/lmg1020.pdf; Description_: 5-V, 7-A, 5-A Low-Side GaN and MOSFET Driver For 1-ns Pulse Width, DSBGA-6
pins: A1 V_{DD}, A2 OUTH, B1 GND, B2 OUTL, C1 IN+, C2 IN-

## LTC4440EMS8
designator *  value LTC4440EMS8  Reference: U
High-side, N-Channel, Mosfet driver, 80V input, -40°C to +85°C, MSOP-8; ki_keywords: high-side mosfet-driver; ki_fp_filters: MSOP*1EP*3x3mm*P0.65mm*; Footprint: Package_SO:MSOP-8-1EP_3x3mm_P0.65mm_EP1.68x1.88mm; Datasheet: https://www.analog.com/media/en/technical-documentation/data-sheets/4440fb.pdf; Description_: High-side, N-Channel, Mosfet driver, 80V input, -40°C to +85°C, MSOP-8
pins: 1 INP, 2 GND, 3 VCC, 4 GND, 5 NC, 6 BOOST, 7 TG, 8 TS, 9 PAD

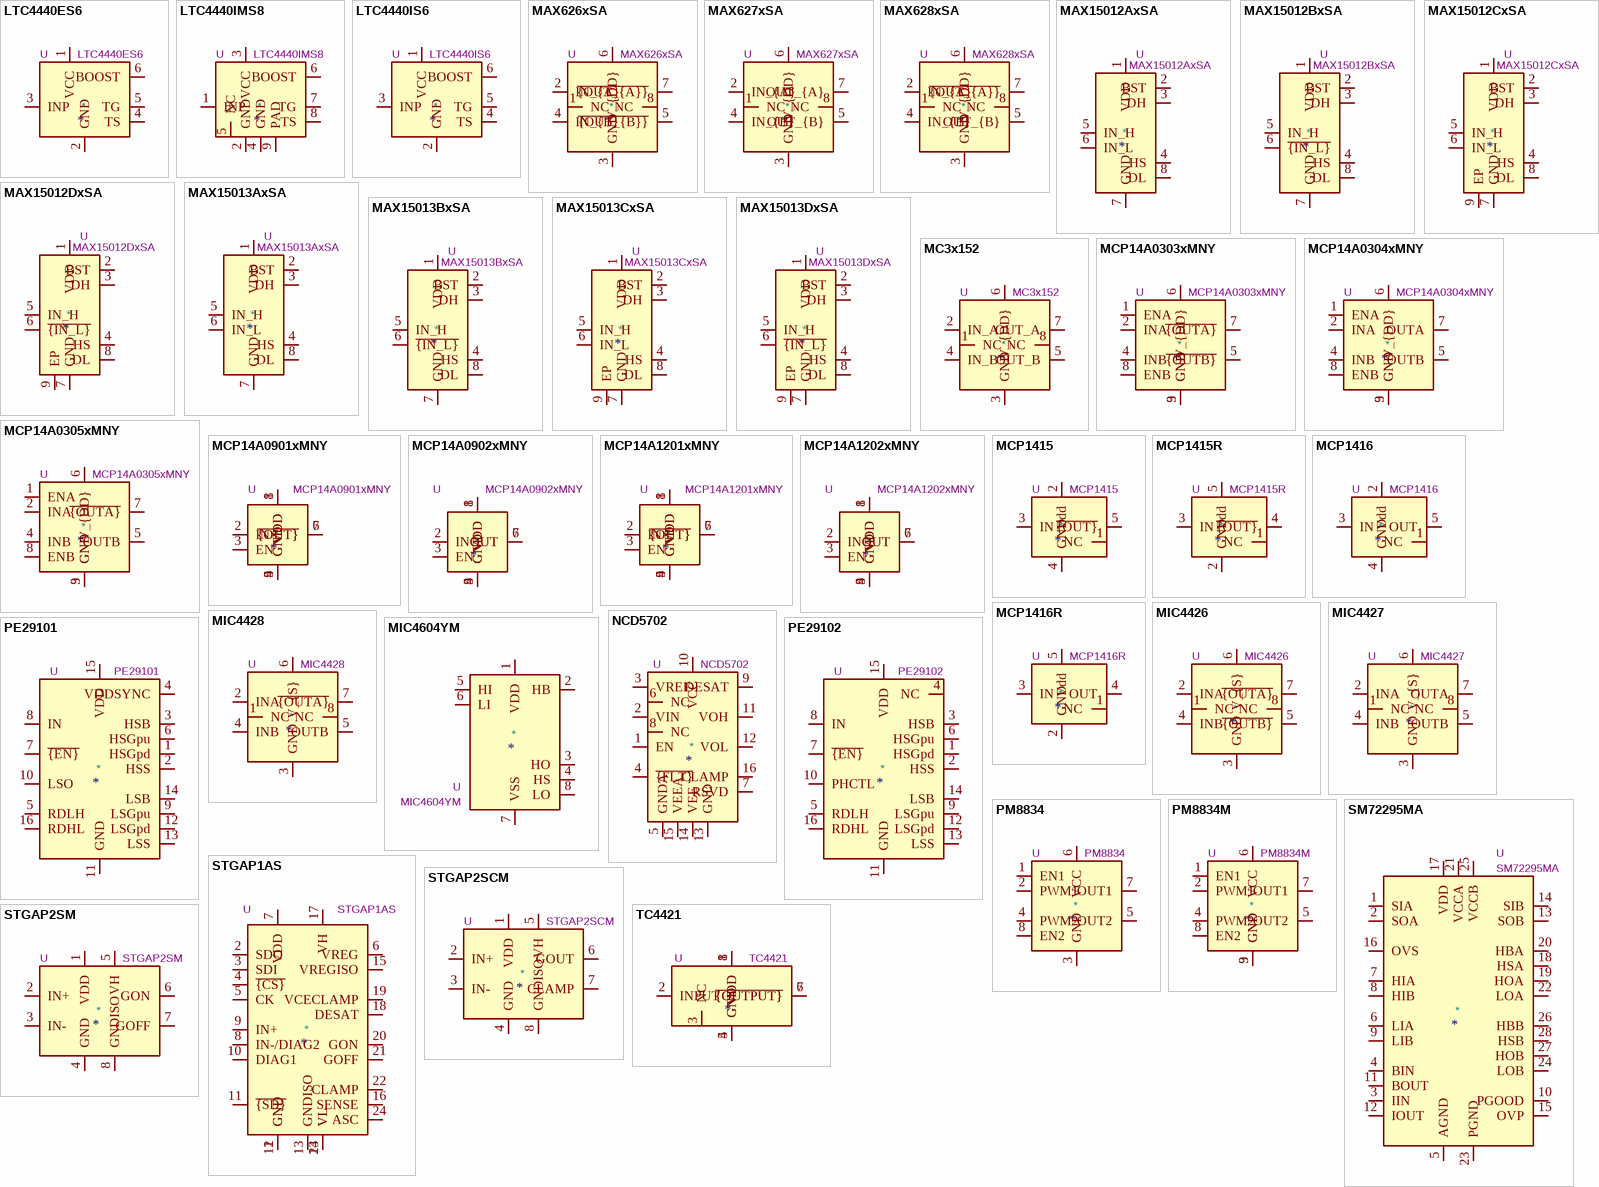
[diagram p4: symbols LTC4440ES6 to TC4421]

## LTC4440ES6
designator *  value LTC4440ES6  Reference: U
High-side, N-Channel, Mosfet driver, 80V input, -40°C to +85°C, SOT23-6; ki_keywords: high-side mosfet-driver; ki_fp_filters: SOT?23*; Footprint: Package_TO_SOT_SMD:SOT-23-6; Datasheet: https://www.analog.com/media/en/technical-documentation/data-sheets/4440fb.pdf; Description_: High-side, N-Channel, Mosfet driver, 80V input, -40°C to +85°C, SOT23-6
pins: 1 VCC, 2 GND, 3 INP, 4 TS, 5 TG, 6 BOOST

## LTC4440IMS8
designator *  value LTC4440IMS8  Reference: U
High-side, N-Channel, Mosfet driver, 80V input, -40°C to +125°C, MSOP-8; ki_keywords: high-side mosfet-driver; ki_fp_filters: MSOP*1EP*3x3mm*P0.65mm*; Footprint: Package_SO:MSOP-8-1EP_3x3mm_P0.65mm_EP1.68x1.88mm; Datasheet: https://www.analog.com/media/en/technical-documentation/data-sheets/4440fb.pdf; Description_: High-side, N-Channel, Mosfet driver, 80V input, -40°C to +125°C, MSOP-8
pins: 1 INP, 2 GND, 3 VCC, 4 GND, 5 NC, 6 BOOST, 7 TG, 8 TS, 9 PAD

## LTC4440IS6
designator *  value LTC4440IS6  Reference: U
High-side, N-Channel, Mosfet driver, 80V input, -40°C to +85°C, SOT23-6; ki_keywords: high-side mosfet-driver; ki_fp_filters: SOT?23*; Footprint: Package_TO_SOT_SMD:SOT-23-6; Datasheet: https://www.analog.com/media/en/technical-documentation/data-sheets/4440fb.pdf; Description_: High-side, N-Channel, Mosfet driver, 80V input, -40°C to +85°C, SOT23-6
pins: 1 VCC, 2 GND, 3 INP, 4 TS, 5 TG, 6 BOOST

## MAX626xSA
designator *  value MAX626xSA  Reference: U
Dual Power MOSFET Driver, 4.5..18V supply, IPK = 2A, 20ns rise / fall times (1 nF load), TTL/CMOS compatible inputs, inverting drivers, SOIC-8; ki_keywords: Maxim-Integrated Analog-Devices TSC426 DS0026 MAX626CSA MAX626ESA; ki_fp_filters: *SOIC*3.9x4.9mm*P1.27mm*; Footprint: Package_SO:SOIC-8_3.9x4.9mm_P1.27mm; Datasheet: https://www.analog.com/media/en/technical-documentation/data-sheets/MAX626-TSC428.pdf; Description_: Dual Power MOSFET Driver, 4.5..18V supply, IPK = 2A, 20ns rise / fall times (1 nF load), TTL/CMOS compatible inputs, inverting drivers, SOIC-8
pins: 1 NC, 2 IN_{A}, 3 GND, 4 IN_{B}, 5 ~{{OUT_{B}}}, 6 V_{DD}, 7 ~{{OUT_{A}}}, 8 NC

## MAX627xSA
designator *  value MAX627xSA  Reference: U
Dual Power MOSFET Driver, 4.5..18V supply, IPK = 2A, 20ns rise / fall times (1 nF load), TTL/CMOS compatible inputs, non-inverting drivers, SOIC-8; ki_keywords: Maxim-Integrated Analog-Devices TSC427 MAX627CSA MAX627ESA; ki_fp_filters: *SOIC*3.9x4.9mm*P1.27mm*; Footprint: Package_SO:SOIC-8_3.9x4.9mm_P1.27mm; Datasheet: https://www.analog.com/media/en/technical-documentation/data-sheets/MAX626-TSC428.pdf; Description_: Dual Power MOSFET Driver, 4.5..18V supply, IPK = 2A, 20ns rise / fall times (1 nF load), TTL/CMOS compatible inputs, non-inverting drivers, SOIC-8
pins: 1 NC, 2 IN_{A}, 3 GND, 4 IN_{B}, 5 OUT_{B}, 6 V_{DD}, 7 OUT_{A}, 8 NC

## MAX628xSA
designator *  value MAX628xSA  Reference: U
Dual Power MOSFET Driver, 4.5..18V supply, IPK = 2A, 20ns rise / fall times (1 nF load), TTL/CMOS compatible inputs, complementary drivers, SOIC-8; ki_keywords: Maxim-Integrated Analog-Devices TSC428 MAX628CSA MAX628ESA; ki_fp_filters: *SOIC*3.9x4.9mm*P1.27mm*; Footprint: Package_SO:SOIC-8_3.9x4.9mm_P1.27mm; Datasheet: https://www.analog.com/media/en/technical-documentation/data-sheets/MAX626-TSC428.pdf; Description_: Dual Power MOSFET Driver, 4.5..18V supply, IPK = 2A, 20ns rise / fall times (1 nF load), TTL/CMOS compatible inputs, complementary drivers, SOIC-8
pins: 1 NC, 2 IN_{A}, 3 GND, 4 IN_{B}, 5 OUT_{B}, 6 V_{DD}, 7 ~{{OUT_{A}}}, 8 NC

## MAX15012AxSA
designator *  value MAX15012AxSA  Reference: U
High Frequency Half Bridge Driver, Output Current 2.0A, 175V, CMOS Input, SOIC-8; ki_keywords: Half Bridge Gate Driver; ki_fp_filters: SOIC*3.9x4.9mm*P1.27mm*; Footprint: Package_SO:SOIC-8_3.9x4.9mm_P1.27mm; Datasheet: https://datasheets.maximintegrated.com/en/ds/MAX15012-MAX15013B.pdf; Description_: High Frequency Half Bridge Driver, Output Current 2.0A, 175V, CMOS Input, SOIC-8
pins: 1 VDD, 2 BST, 3 DH, 4 HS, 5 IN_H, 6 IN_L, 7 GND, 8 DL

## MAX15012BxSA
designator *  value MAX15012BxSA  Reference: U
High Frequency Half Bridge Driver, Output Current 2.0A, 175V, CMOS Input, SOIC-8; ki_keywords: Half Bridge Gate Driver; ki_fp_filters: SOIC*3.9x4.9mm*P1.27mm*; Footprint: Package_SO:SOIC-8_3.9x4.9mm_P1.27mm; Datasheet: https://datasheets.maximintegrated.com/en/ds/MAX15012-MAX15013B.pdf; Description_: High Frequency Half Bridge Driver, Output Current 2.0A, 175V, CMOS Input, SOIC-8
pins: 1 VDD, 2 BST, 3 DH, 4 HS, 5 IN_H, 6 ~{{IN_L}}, 7 GND, 8 DL

## MAX15012CxSA
designator *  value MAX15012CxSA  Reference: U
High Frequency Half Bridge Driver, Output Current 2.0A, 175V, CMOS Input, SOIC-8; ki_keywords: Half Bridge Gate Driver; ki_fp_filters: SOIC*1EP*3.9x4.9mm*P1.27mm*; Footprint: Package_SO:SOIC-8-1EP_3.9x4.9mm_P1.27mm_EP2.514x3.2mm; Datasheet: https://datasheets.maximintegrated.com/en/ds/MAX15012-MAX15013B.pdf; Description_: High Frequency Half Bridge Driver, Output Current 2.0A, 175V, CMOS Input, SOIC-8
pins: 1 VDD, 2 BST, 3 DH, 4 HS, 5 IN_H, 6 IN_L, 7 GND, 8 DL, 9 EP

## MAX15012DxSA
designator *  value MAX15012DxSA  Reference: U
High Frequency Half Bridge Driver, Output Current 2.0A, 175V, CMOS Input, SOIC-8; ki_keywords: Half Bridge Gate Driver; ki_fp_filters: SOIC*1EP*3.9x4.9mm*P1.27mm*; Footprint: Package_SO:SOIC-8-1EP_3.9x4.9mm_P1.27mm_EP2.514x3.2mm; Datasheet: https://datasheets.maximintegrated.com/en/ds/MAX15012-MAX15013B.pdf; Description_: High Frequency Half Bridge Driver, Output Current 2.0A, 175V, CMOS Input, SOIC-8
pins: 1 VDD, 2 BST, 3 DH, 4 HS, 5 IN_H, 6 ~{{IN_L}}, 7 GND, 8 DL, 9 EP

## MAX15013AxSA
designator *  value MAX15013AxSA  Reference: U
High Frequency Half Bridge Driver, Output Current 2.0A, 175V, TTL Input, SOIC-8; ki_keywords: Half Bridge Gate Driver; ki_fp_filters: SOIC*3.9x4.9mm*P1.27mm*; Footprint: Package_SO:SOIC-8_3.9x4.9mm_P1.27mm; Datasheet: https://datasheets.maximintegrated.com/en/ds/MAX15012-MAX15013B.pdf; Description_: High Frequency Half Bridge Driver, Output Current 2.0A, 175V, TTL Input, SOIC-8
pins: 1 VDD, 2 BST, 3 DH, 4 HS, 5 IN_H, 6 IN_L, 7 GND, 8 DL

## MAX15013BxSA
designator *  value MAX15013BxSA  Reference: U
High Frequency Half Bridge Driver, Output Current 2.0A, 175V, TTL Input, SOIC-8; ki_keywords: Half Bridge Gate Driver; ki_fp_filters: SOIC*3.9x4.9mm*P1.27mm*; Footprint: Package_SO:SOIC-8_3.9x4.9mm_P1.27mm; Datasheet: https://datasheets.maximintegrated.com/en/ds/MAX15012-MAX15013B.pdf; Description_: High Frequency Half Bridge Driver, Output Current 2.0A, 175V, TTL Input, SOIC-8
pins: 1 VDD, 2 BST, 3 DH, 4 HS, 5 IN_H, 6 ~{{IN_L}}, 7 GND, 8 DL

## MAX15013CxSA
designator *  value MAX15013CxSA  Reference: U
High Frequency Half Bridge Driver, Output Current 2.0A, 175V, TTL Input, SOIC-8; ki_keywords: Half Bridge Gate Driver; ki_fp_filters: SOIC*1EP*3.9x4.9mm*P1.27mm*; Footprint: Package_SO:SOIC-8-1EP_3.9x4.9mm_P1.27mm_EP2.514x3.2mm; Datasheet: https://datasheets.maximintegrated.com/en/ds/MAX15012-MAX15013B.pdf; Description_: High Frequency Half Bridge Driver, Output Current 2.0A, 175V, TTL Input, SOIC-8
pins: 1 VDD, 2 BST, 3 DH, 4 HS, 5 IN_H, 6 IN_L, 7 GND, 8 DL, 9 EP

## MAX15013DxSA
designator *  value MAX15013DxSA  Reference: U
High Frequency Half Bridge Driver, Output Current 2.0A, 175V, TTL Input, SOIC-8; ki_keywords: Half Bridge Gate Driver; ki_fp_filters: SOIC*1EP*3.9x4.9mm*P1.27mm*; Footprint: Package_SO:SOIC-8-1EP_3.9x4.9mm_P1.27mm_EP2.514x3.2mm; Datasheet: https://datasheets.maximintegrated.com/en/ds/MAX15012-MAX15013B.pdf; Description_: High Frequency Half Bridge Driver, Output Current 2.0A, 175V, TTL Input, SOIC-8
pins: 1 VDD, 2 BST, 3 DH, 4 HS, 5 IN_H, 6 ~{{IN_L}}, 7 GND, 8 DL, 9 EP

## MC3x152
designator *  value MC3x152  Reference: U
Dual High Speed MOSFET Driver, 6.1..18V supply voltage, 1.5A peak output current, 15ns rise / fall times (1 nF load), DIP-8 / SOIC-8; ki_keywords: MC33152 MC34152; ki_fp_filters: DIP*W7.62mm* *SOIC*3.9x4.9mm*P1.27mm*; Datasheet: https://www.onsemi.com/pub/Collateral/MC34152-D.PDF; Description_: Dual High Speed MOSFET Driver, 6.1..18V supply voltage, 1.5A peak output current, 15ns rise / fall times (1 nF load), DIP-8 / SOIC-8
pins: 1 NC, 2 IN_A, 3 GND, 4 IN_B, 5 OUT_B, 6 V_{DD}, 7 OUT_A, 8 NC

## MCP14A0303xMNY
designator *  value MCP14A0303xMNY  Reference: U
Dual 3A-Peak MOSFET Driver, inverting outputs, DFN-8; ki_keywords: high-speed; ki_fp_filters: WDFN*1EP*3x2mm*P0.5mm*EP1.3x1.4mm*; Footprint: Package_DFN_QFN:WDFN-8-1EP_3x2mm_P0.5mm_EP1.3x1.4mm; Datasheet: http://ww1.microchip.com/downloads/en/DeviceDoc/MCP14A0303_4_5-Data-Sheet-20006046A.pdf; Description_: Dual 3A-Peak MOSFET Driver, inverting outputs, DFN-8
pins: 1 ENA, 2 INA, 3 GND, 4 INB, 5 ~{{OUTB}}, 6 V_{DD}, 7 ~{{OUTA}}, 8 ENB, 9 GND

## MCP14A0304xMNY
designator *  value MCP14A0304xMNY  Reference: U
Dual 3A-Peak MOSFET Driver, non-inverting outputs, DFN-8; ki_keywords: high-speed; ki_fp_filters: WDFN*1EP*3x2mm*P0.5mm*EP1.3x1.4mm*; Footprint: Package_DFN_QFN:WDFN-8-1EP_3x2mm_P0.5mm_EP1.3x1.4mm; Datasheet: http://ww1.microchip.com/downloads/en/DeviceDoc/MCP14A0303_4_5-Data-Sheet-20006046A.pdf; Description_: Dual 3A-Peak MOSFET Driver, non-inverting outputs, DFN-8
pins: 1 ENA, 2 INA, 3 GND, 4 INB, 5 OUTB, 6 V_{DD}, 7 OUTA, 8 ENB, 9 GND

## MCP14A0305xMNY
designator *  value MCP14A0305xMNY  Reference: U
Dual 3A-Peak MOSFET Driver, inverting/non-inverting outputs, DFN-8; ki_keywords: high-speed; ki_fp_filters: WDFN*1EP*3x2mm*P0.5mm*EP1.3x1.4mm*; Footprint: Package_DFN_QFN:WDFN-8-1EP_3x2mm_P0.5mm_EP1.3x1.4mm; Datasheet: http://ww1.microchip.com/downloads/en/DeviceDoc/MCP14A0303_4_5-Data-Sheet-20006046A.pdf; Description_: Dual 3A-Peak MOSFET Driver, inverting/non-inverting outputs, DFN-8
pins: 1 ENA, 2 INA, 3 GND, 4 INB, 5 OUTB, 6 V_{DD}, 7 ~{{OUTA}}, 8 ENB, 9 GND

## MCP14A0901xMNY
designator *  value MCP14A0901xMNY  Reference: U
Dual 9A-Peak MOSFET Driver, inverting outputs, DFN-8; ki_keywords: Driver, Dual MOSFET; ki_fp_filters: TDFN*1EP*3x2mm*P0.5mm*; Footprint: Package_DFN_QFN:TDFN-8-1EP_3x2mm_P0.5mm_EP1.3x1.4mm; Datasheet: http://ww1.microchip.com/downloads/en/DeviceDoc/MCP14A0901_2-Data-Sheet-20006183A.pdf; Description_: Dual 9A-Peak MOSFET Driver, inverting outputs, DFN-8
pins: 1 VDD, 2 IN, 3 EN, 4 GND, 5 GND, 6 ~{{OUT}}, 7 ~{{OUT}}, 8 VDD, 9 GND

## MCP14A0902xMNY
designator *  value MCP14A0902xMNY  Reference: U
Dual 9A-Peak MOSFET Driver, non-inverting outputs, DFN-8; ki_keywords: Driver, Dual MOSFET; ki_fp_filters: TDFN*1EP*3x2mm*P0.5mm*; Footprint: Package_DFN_QFN:TDFN-8-1EP_3x2mm_P0.5mm_EP1.3x1.4mm; Datasheet: http://ww1.microchip.com/downloads/en/DeviceDoc/MCP14A0901_2-Data-Sheet-20006183A.pdf; Description_: Dual 9A-Peak MOSFET Driver, non-inverting outputs, DFN-8
pins: 1 VDD, 2 IN, 3 EN, 4 GND, 5 GND, 6 OUT, 7 OUT, 8 VDD, 9 GND

## MCP14A1201xMNY
designator *  value MCP14A1201xMNY  Reference: U
Dual 12A-Peak MOSFET Driver, inverting outputs, DFN-8; ki_keywords: Driver, Dual MOSFET; ki_fp_filters: TDFN*1EP*3x2mm*P0.5mm*; Footprint: Package_DFN_QFN:TDFN-8-1EP_3x2mm_P0.5mm_EP1.3x1.4mm; Datasheet: http://ww1.microchip.com/downloads/en/DeviceDoc/MCP14A1201-Family-Data-Sheet-DS20006228A.pdf; Description_: Dual 12A-Peak MOSFET Driver, inverting outputs, DFN-8
pins: 1 VDD, 2 IN, 3 EN, 4 GND, 5 GND, 6 ~{{OUT}}, 7 ~{{OUT}}, 8 VDD, 9 GND

## MCP14A1202xMNY
designator *  value MCP14A1202xMNY  Reference: U
Dual 12A-Peak MOSFET Driver, non-inverting outputs, DFN-8; ki_keywords: Driver, Dual MOSFET; ki_fp_filters: TDFN*1EP*3x2mm*P0.5mm*; Footprint: Package_DFN_QFN:TDFN-8-1EP_3x2mm_P0.5mm_EP1.3x1.4mm; Datasheet: http://ww1.microchip.com/downloads/en/DeviceDoc/MCP14A1201-Family-Data-Sheet-DS20006228A.pdf; Description_: Dual 12A-Peak MOSFET Driver, non-inverting outputs, DFN-8
pins: 1 VDD, 2 IN, 3 EN, 4 GND, 5 GND, 6 OUT, 7 OUT, 8 VDD, 9 GND

## MCP1415
designator *  value MCP1415  Reference: U
1.5A High speed power MOSFET driver with inverting output, SOT-23-5; ki_keywords: mosfet gate driver; ki_fp_filters: SOT?23*; Footprint: Package_TO_SOT_SMD:SOT-23-5; Datasheet: http://ww1.microchip.com/downloads/en/DeviceDoc/20002092F.pdf; Description_: 1.5A High speed power MOSFET driver with inverting output, SOT-23-5
pins: 1 NC, 2 Vdd, 3 IN, 4 GND, 5 ~{{OUT}}

## MCP1415R
designator *  value MCP1415R  Reference: U
1.5A High speed power MOSFET driver with inverting output, SOT-23-5; ki_keywords: mosfet gate driver; ki_fp_filters: SOT?23*; Footprint: Package_TO_SOT_SMD:SOT-23-5; Datasheet: http://ww1.microchip.com/downloads/en/DeviceDoc/20002092F.pdf; Description_: 1.5A High speed power MOSFET driver with inverting output, SOT-23-5
pins: 1 NC, 2 GND, 3 IN, 4 ~{{OUT}}, 5 Vdd

## MCP1416
designator *  value MCP1416  Reference: U
1.5A High speed power MOSFET driver with non-inverting output, SOT-23-5; ki_keywords: mosfet gate driver; ki_fp_filters: SOT?23*; Footprint: Package_TO_SOT_SMD:SOT-23-5; Datasheet: http://ww1.microchip.com/downloads/en/DeviceDoc/20002092F.pdf; Description_: 1.5A High speed power MOSFET driver with non-inverting output, SOT-23-5
pins: 1 NC, 2 Vdd, 3 IN, 4 GND, 5 OUT

## MCP1416R
designator *  value MCP1416R  Reference: U
1.5A High speed power MOSFET driver with non-inverting output, SOT-23-5; ki_keywords: mosfet gate driver; ki_fp_filters: SOT?23*; Footprint: Package_TO_SOT_SMD:SOT-23-5; Datasheet: http://ww1.microchip.com/downloads/en/DeviceDoc/20002092F.pdf; Description_: 1.5A High speed power MOSFET driver with non-inverting output, SOT-23-5
pins: 1 NC, 2 GND, 3 IN, 4 OUT, 5 Vdd

## MIC4426
designator *  value MIC4426  Reference: U
Dual 1.5A-Peak Low-Side MOSFET Driver, 4.5..18V supply voltage, TTL/CMOS compatible inputs, inverting drivers, DIP-8 / SOIC-8 / MSOP-8; ki_keywords: Microchip Micrel BiCMOS DMOS clock-driver clock-buffer MIC426 MIC1426 DS0026; ki_fp_filters: DIP*W7.62mm* SOIC*3.9x4.9mm*P1.27mm* MSOP*P0.65mm*; Datasheet: https://ww1.microchip.com/downloads/en/DeviceDoc/MIC4426-7-8-Dual-1-5A-Peak-Low-Side-MOSFET-DRivers-DS20006202A.pdf; Description_: Dual 1.5A-Peak Low-Side MOSFET Driver, 4.5..18V supply voltage, TTL/CMOS compatible inputs, inverting drivers, DIP-8 / SOIC-8 / MSOP-8
pins: 1 NC, 2 INA, 3 GND, 4 INB, 5 ~{{OUTB}}, 6 V_{S}, 7 ~{{OUTA}}, 8 NC

## MIC4427
designator *  value MIC4427  Reference: U
Dual 1.5A-Peak Low-Side MOSFET Driver, 4.5..18V supply voltage, TTL/CMOS compatible inputs, non-inverting drivers, DIP-8 / SOIC-8 / MSOP-8; ki_keywords: Microchip Micrel BiCMOS DMOS clock-driver clock-buffer MIC427 MIC1427; ki_fp_filters: DIP*W7.62mm* SOIC*3.9x4.9mm*P1.27mm* MSOP*P0.65mm*; Datasheet: https://ww1.microchip.com/downloads/en/DeviceDoc/MIC4426-7-8-Dual-1-5A-Peak-Low-Side-MOSFET-DRivers-DS20006202A.pdf; Description_: Dual 1.5A-Peak Low-Side MOSFET Driver, 4.5..18V supply voltage, TTL/CMOS compatible inputs, non-inverting drivers, DIP-8 / SOIC-8 / MSOP-8
pins: 1 NC, 2 INA, 3 GND, 4 INB, 5 OUTB, 6 V_{S}, 7 OUTA, 8 NC

## MIC4428
designator *  value MIC4428  Reference: U
Dual 1.5A-Peak Low-Side MOSFET Driver, 4.5..18V supply voltage, TTL/CMOS compatible inputs, complementary drivers, DIP-8 / SOIC-8 / MSOP-8; ki_keywords: Microchip Micrel BiCMOS DMOS clock-driver clock-buffer MIC428 MIC1428; ki_fp_filters: DIP*W7.62mm* SOIC*3.9x4.9mm*P1.27mm* MSOP*P0.65mm*; Datasheet: https://ww1.microchip.com/downloads/en/DeviceDoc/MIC4426-7-8-Dual-1-5A-Peak-Low-Side-MOSFET-DRivers-DS20006202A.pdf; Description_: Dual 1.5A-Peak Low-Side MOSFET Driver, 4.5..18V supply voltage, TTL/CMOS compatible inputs, complementary drivers, DIP-8 / SOIC-8 / MSOP-8
pins: 1 NC, 2 INA, 3 GND, 4 INB, 5 OUTB, 6 V_{S}, 7 ~{{OUTA}}, 8 NC

## MIC4604YM
designator *  value MIC4604YM  Reference: U
85V Half-Bridge MOSFET Driver with up to 16V Programmable Gate Drive, SOIC-8; ki_keywords: Half-Bridge Gate Driver; ki_fp_filters: SOIC*3.9x4.9mm*P1.27mm*; Footprint: Package_SO:SOIC-8_3.9x4.9mm_P1.27mm; Datasheet: http://ww1.microchip.com/downloads/en/DeviceDoc/20005852A.pdf; Description_: 85V Half-Bridge MOSFET Driver with up to 16V Programmable Gate Drive, SOIC-8
pins: 1 VDD, 2 HB, 3 HO, 4 HS, 5 HI, 6 LI, 7 VSS, 8 LO

## NCD5702
designator *  value NCD5702  Reference: U
High Current IGBT Gate, +4/-6A, SOIC-16; ki_keywords: igbt gate driver; ki_fp_filters: SOIC*3.9x9.9*P1.27mm*; Footprint: Package_SO:SOIC-16_3.9x9.9mm_P1.27mm; Datasheet: https://www.onsemi.com/pub/Collateral/NCD5702-D.PDF; Description_: High Current IGBT Gate, +4/-6A, SOIC-16
pins: 1 EN, 2 VIN, 3 VREF, 4 ~{{FLT}}, 5 GNDA, 6 NC, 7 RSVD, 8 NC, 9 DESAT, 10 VCC, 11 VOH, 12 VOL, 13 GND, 14 VEE, 15 VEEA, 16 CLAMP

## PE29101
designator *  value PE29101  Reference: U
UltraCMOS High-Speed FET Driver, 40 MHz, Output Current 2.0A/4.0A, 80V, Half Bridge, Low Side Output, CSP-16; ki_keywords: GaN Gate Driver; ki_fp_filters: pSemi*CSP*1.64x2.04mm*P0.4mm*; Footprint: Package_CSP:pSemi_CSP-16_1.64x2.04mm_P0.4mm; Datasheet: http://www.psemi.com/pdf/datasheets/pe29101ds.pdf; Description_: UltraCMOS High-Speed FET Driver, 40 MHz, Output Current 2.0A/4.0A, 80V, Half Bridge, Low Side Output, CSP-16
pins: 1 HSGpd, 2 HSS, 3 HSB, 4 VDDSYNC, 5 RDLH, 6 HSGpu, 7 ~{{EN}}, 8 IN, 9 LSGpu, 10 LSO, 11 GND, 12 LSGpd, 13 LSS, 14 LSB, 15 VDD, 16 RDHL

## PE29102
designator *  value PE29102  Reference: U
UltraCMOS High-Speed FET Driver, 40 MHz, Output Current 2.0A/4.0A, 80V, Half Bridge, Phase Control, CSP-16; ki_keywords: GaN Gate Driver; ki_fp_filters: pSemi*CSP*1.64x2.04mm*P0.4mm*; Footprint: Package_CSP:pSemi_CSP-16_1.64x2.04mm_P0.4mm; Datasheet: http://www.psemi.com/pdf/datasheets/pe29102ds.pdf; Description_: UltraCMOS High-Speed FET Driver, 40 MHz, Output Current 2.0A/4.0A, 80V, Half Bridge, Phase Control, CSP-16
pins: 1 HSGpd, 2 HSS, 3 HSB, 4 NC, 5 RDLH, 6 HSGpu, 7 ~{{EN}}, 8 IN, 9 LSGpu, 10 PHCTL, 11 GND, 12 LSGpd, 13 LSS, 14 LSB, 15 VDD, 16 RDHL

## PM8834
designator *  value PM8834  Reference: U
4A dual low-side MOSFET driver, SOIC-8; ki_fp_filters: SOIC*3.9x4.9mm*P1.27mm*; Footprint: Package_SO:SOIC-8_3.9x4.9mm_P1.27mm; Datasheet: http://www.st.com/resource/en/datasheet/pm8834.pdf; Description_: 4A dual low-side MOSFET driver, SOIC-8; ki_keywords: mosfet driver
pins: 1 EN1, 2 PWM1, 3 GND, 4 PWM2, 5 OUT2, 6 VCC, 7 OUT1, 8 EN2

## PM8834M
designator *  value PM8834M  Reference: U
4A dual low-side MOSFET driver, MSOP-8; ki_fp_filters: MSOP*1EP*3x3mm*P0.65mm*; Footprint: Package_SO:MSOP-8-1EP_3x3mm_P0.65mm_EP1.95x2.15mm; Datasheet: http://www.st.com/resource/en/datasheet/pm8834.pdf; Description_: 4A dual low-side MOSFET driver, MSOP-8; ki_keywords: mosfet driver
pins: 1 EN1, 2 PWM1, 3 GND, 4 PWM2, 5 OUT2, 6 VCC, 7 OUT1, 8 EN2, 9 GND

## SM72295MA
designator *  value SM72295MA  Reference: U
Full Bridge Gate Driver with integrated Current Sense Amplifier, 3A, 115V, SOIC-28; ki_fp_filters: SOIC*7.5x17.9mm*P1.27mm*; Footprint: Package_SO:SOIC-28W_7.5x17.9mm_P1.27mm; Datasheet: http://www.ti.com/lit/gpn/sm72295; Description_: Full Bridge Gate Driver with integrated Current Sense Amplifier, 3A, 115V, SOIC-28; ki_keywords: Full Bridge Gate Driver
pins: 1 SIA, 2 SOA, 3 IIN, 4 BIN, 5 AGND, 6 LIA, 7 HIA, 8 HIB, 9 LIB, 10 PGOOD, 11 BOUT, 12 IOUT, 13 SOB, 14 SIB, 15 OVP, 16 OVS, 17 VDD, 18 HSA, 19 HOA, 20 HBA, 21 VCCA, 22 LOA, 23 PGND, 24 LOB, 25 VCCB, 26 HBB, 27 HOB, 28 HSB

## STGAP1AS
designator *  value STGAP1AS  Reference: U
Galvanically isolated 5 A advanced single gate driver, Dual Output, Miller Clamp, Sense, Desaturation, UVLO, OVLO, SPI, AEC-Q100, SOIC-24; ki_keywords: isolated fet driver; ki_fp_filters: SOIC*7.5x15.4mm*P1.27mm*; Footprint: Package_SO:SOIC-24W_7.5x15.4mm_P1.27mm; Datasheet: https://www.st.com/resource/en/datasheet/stgap1as.pdf; Description_: Galvanically isolated 5 A advanced single gate driver, Dual Output, Miller Clamp, Sense, Desaturation, UVLO, OVLO, SPI, AEC-Q100, SOIC-24
pins: 1 GND, 2 SDO, 3 SDI, 4 ~{{CS}}, 5 CK, 6 VREG, 7 VDD, 8 IN-/DIAG2, 9 IN+, 10 DIAG1, 11 ~{{SD}}, 12 GND, 13 GNDISO, 14 VL, 15 VREGISO, 16 SENSE, 17 VH, 18 DESAT, 19 VCECLAMP, 20 GON, 21 GOFF, 22 CLAMP, 23 VL, 24 ASC

## STGAP2SCM
designator *  value STGAP2SCM  Reference: U
Galvanically isolated 4 A single gate driver, Single Output, Miller Clamp, SOIC-8; ki_keywords: isolated fet driver; ki_fp_filters: SOIC*3.9x4.9mm*P1.27mm*; Footprint: Package_SO:SOIC-8_3.9x4.9mm_P1.27mm; Datasheet: https://www.st.com/resource/en/datasheet/stgap2s.pdf; Description_: Galvanically isolated 4 A single gate driver, Single Output, Miller Clamp, SOIC-8
pins: 1 VDD, 2 IN+, 3 IN-, 4 GND, 5 VH, 6 GOUT, 7 CLAMP, 8 GNDISO

## STGAP2SM
designator *  value STGAP2SM  Reference: U
Galvanically isolated 4 A single gate driver, Dual Output, SOIC-8; ki_keywords: isolated fet driver; ki_fp_filters: SOIC*3.9x4.9mm*P1.27mm*; Footprint: Package_SO:SOIC-8_3.9x4.9mm_P1.27mm; Datasheet: https://www.st.com/resource/en/datasheet/stgap2s.pdf; Description_: Galvanically isolated 4 A single gate driver, Dual Output, SOIC-8
pins: 1 VDD, 2 IN+, 3 IN-, 4 GND, 5 VH, 6 GON, 7 GOFF, 8 GNDISO

## TC4421
designator *  value TC4421  Reference: U
9A High-Speed inverting MOSFET Driver; ki_keywords: MOSFET IGBT driver; ki_fp_filters: DIP*W7.62mm*; Footprint: Package_DIP:DIP-8_W7.62mm; Datasheet: http://ww1.microchip.com/downloads/en/DeviceDoc/20001420F.pdf; Description_: 9A High-Speed inverting MOSFET Driver
pins: 1 VDD, 2 INPUT, 3 NC, 4 GND, 5 GND, 6 ~{{OUTPUT}}, 7 ~{{OUTPUT}}, 8 VDD

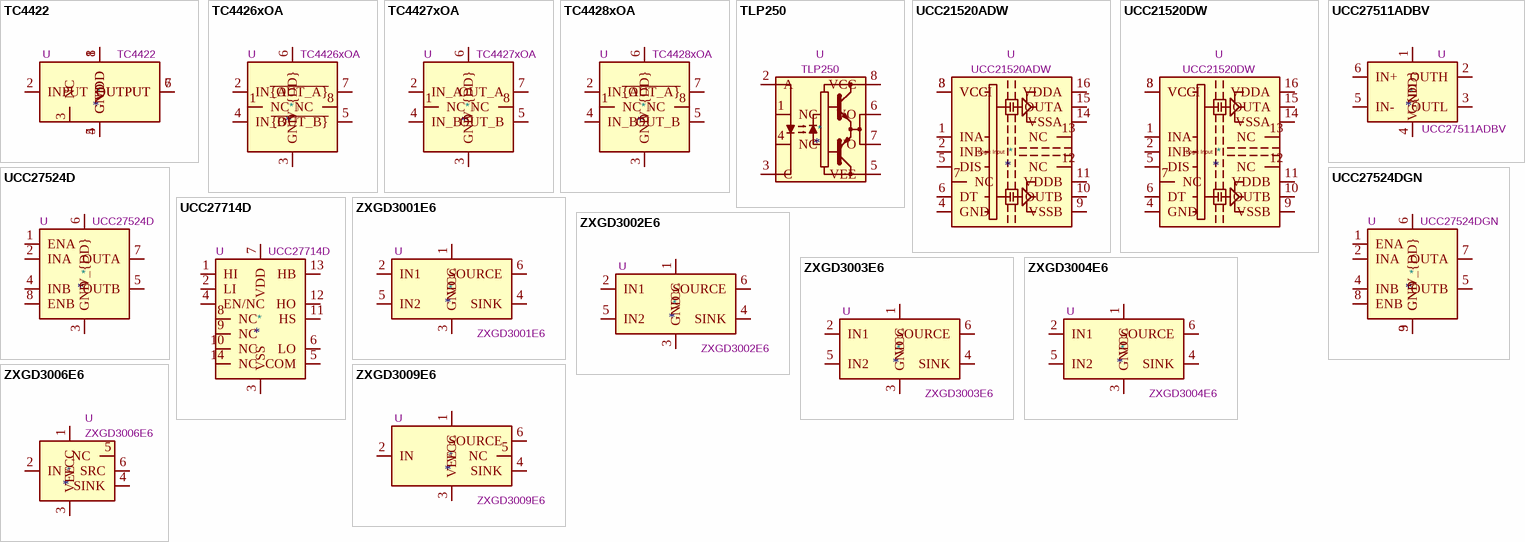
[diagram p5: symbols TC4422 to ZXGD3009E6]